# EAGLE library part TPS62410DRCT_TPS62410DRCT (library Local Compute Module)
Check prices <https://pricing.snapeda.com/parts/TPS62410DRCT/Texas%20Instruments/view-part?ref=eda>
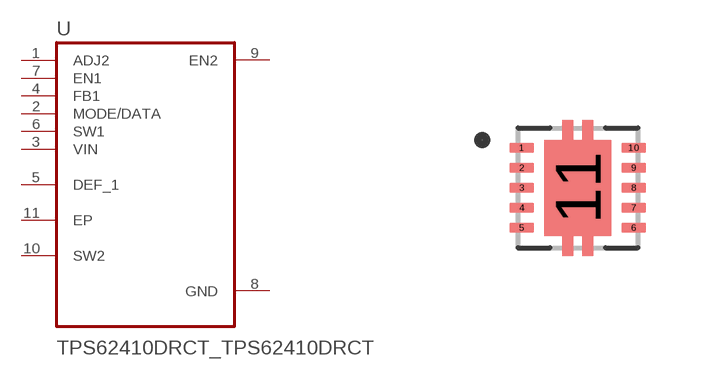
[diagram p21: symbol with the pads of TPS62410DRCT_VREG_V62/16624-01YE; footprint TPS62410DRCT_VREG_V62/16624-01YE]

Designator prefix U

## TPS62410DRCT_TPS62410DRCT (DIGIKEY: 296-21647-1-ND; MANUFACTURE: Texas Instruments; MPN: TPS62410DRCT)  [TPS62410DRCT_VREG_V62/16624-01YE]
1  ADJ2  in
2  MODE/DATA  in
3  VIN  in
4  FB1  in
5  DEF_1
6  SW1  in
7  EN1  in
8  GND  pwr
9  EN2  out
10  SW2
11  EP

## Footprint TPS62410DRCT_VREG_V62/16624-01YE (pad centres in mm)
smd 0.6 x 0.24: 1 -1.4,1; 2 -1.4,0.5; 3 -1.4,0; 4 -1.4,-0.5; 5 -1.4,-1; 6 1.4,-1; 7 1.4,-0.5; 8 1.4,0; 9 1.4,0.5; 10 1.4,1
smd 1.65 x 2.4: 11 0,0